# Altium footprint library CN_IDC8_VERT.PcbLib: 1 footprints
Each footprint in its own frame and in the unit in brackets; x right, y up, seen from the top. Pads: shape width x height; smd on the part's side, far side on the other; paste and mask are expansions set on the pad; w line width, h text height; cw(c..) or ccw(c..) is an arc to the next point about the centre after c.
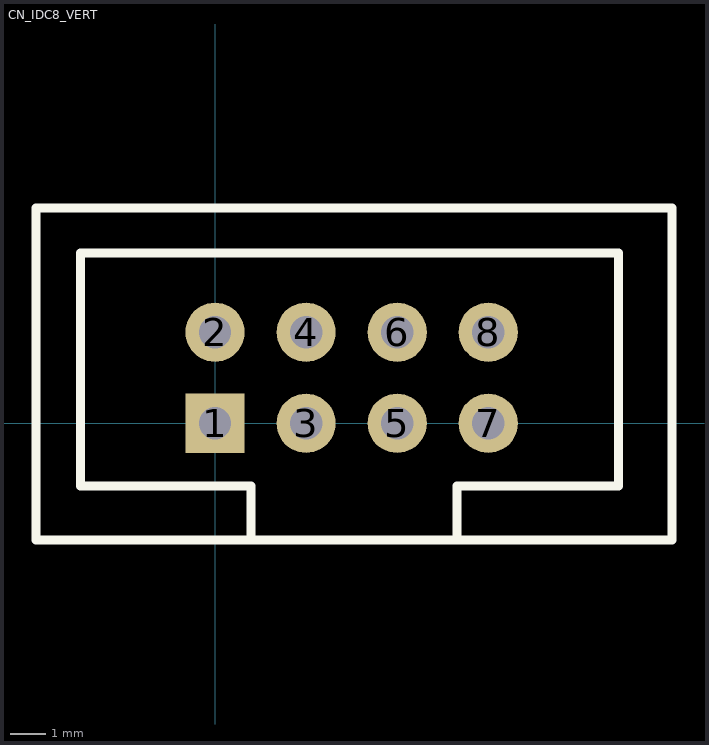
[diagram p0: the footprint, top view; thin cyan lines are the x and y axes]

## CN_IDC8_VERT [mm]
pads (8):
  rect 1.65x1.65 hole 0.9: 1(0,0)
  round 1.65 hole 0.9: 2(0,2.54) 3(2.54,0) 4(2.54,2.54) 5(5.08,0) 6(5.08,2.54) 7(7.62,0) 8(7.62,2.54)
Top Overlay:
  lines w0.254: 1,-3.25 1,-1.75 -3.75,-1.75 -3.75,4.75 11.25,4.75 11.25,-1.75 6.75,-1.75 6.75,-3.25 ; -5,-3.25 -5,6 12.75,6 12.75,-3.25 -5,-3.25
3D body: height 9, standoff -3.15, extent -5.08,-3.205 12.7,5.995